# EAGLE library part MEM2061-01-188-00-A (library MEM2061-01-188-00-A)
MEM2061 Series 8 Position 1.1 mm Pitch Push-Push MicroSD SMT Memory Card Connector Source: Datasheet <https://gct.co/files/drawings/mem2061.pdf?v=db251ddb-1946-4f24-aa19-b8a17901bdd2>
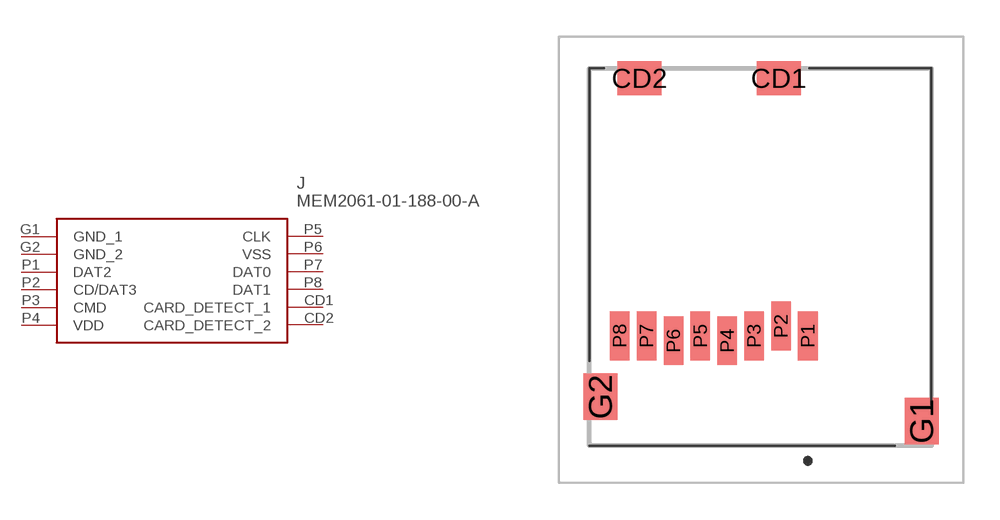
[diagram p0: symbol with the pads of MEM20610118800A; footprint MEM20610118800A]

Designator prefix J

## MEM2061-01-188-00-A (Description: MEM2061 Series 8 Position 1.1 mm Pitch Push-Push MicroSD SMT Memory Card Connector; Height: 2.13mm; Manufacturer_Name: GCT (GLOBAL CONNECTOR TECHNOLOGY); Manufacturer_Part_Number: MEM2061-01-188-00-A; Mouser_Part_Number: 640-MEM20610118800A; Mouser_Price-Stock: https://www.mouser.co.uk/ProductDetail/GCT/MEM2061-01-188-00-A?qs=KUoIvG%2F9IlYc25USp0M1eQ%3D%3D)  [MEM20610118800A]
CD1  CARD_DETECT_1
CD2  CARD_DETECT_2
G1  GND_1
G2  GND_2
P1  DAT2
P2  CD/DAT3
P3  CMD
P4  VDD
P5  CLK
P6  VSS
P7  DAT0
P8  DAT1

## Footprint MEM20610118800A (pad centres in mm)
MEM2061-01-188-00-A-4
smd 1.8 x 1.4: CD1 6.51,10.55; CD2 0.81,10.55
smd 1.4 x 1.9: G1 12.36,-3.5; G2 -0.79,-2.5
smd 0.8 x 2: P1 7.7,0; P2 6.6,0.4; P3 5.5,0; P4 4.4,-0.2; P5 3.3,0; P6 2.2,-0.2; P7 1.1,0; P8 0,0